# Altium schematic symbol library Horizontal Shielded Modular Jack.SchLib: 23 symbols
Pins are listed as number, name and electrical type; pins without a type are passive.

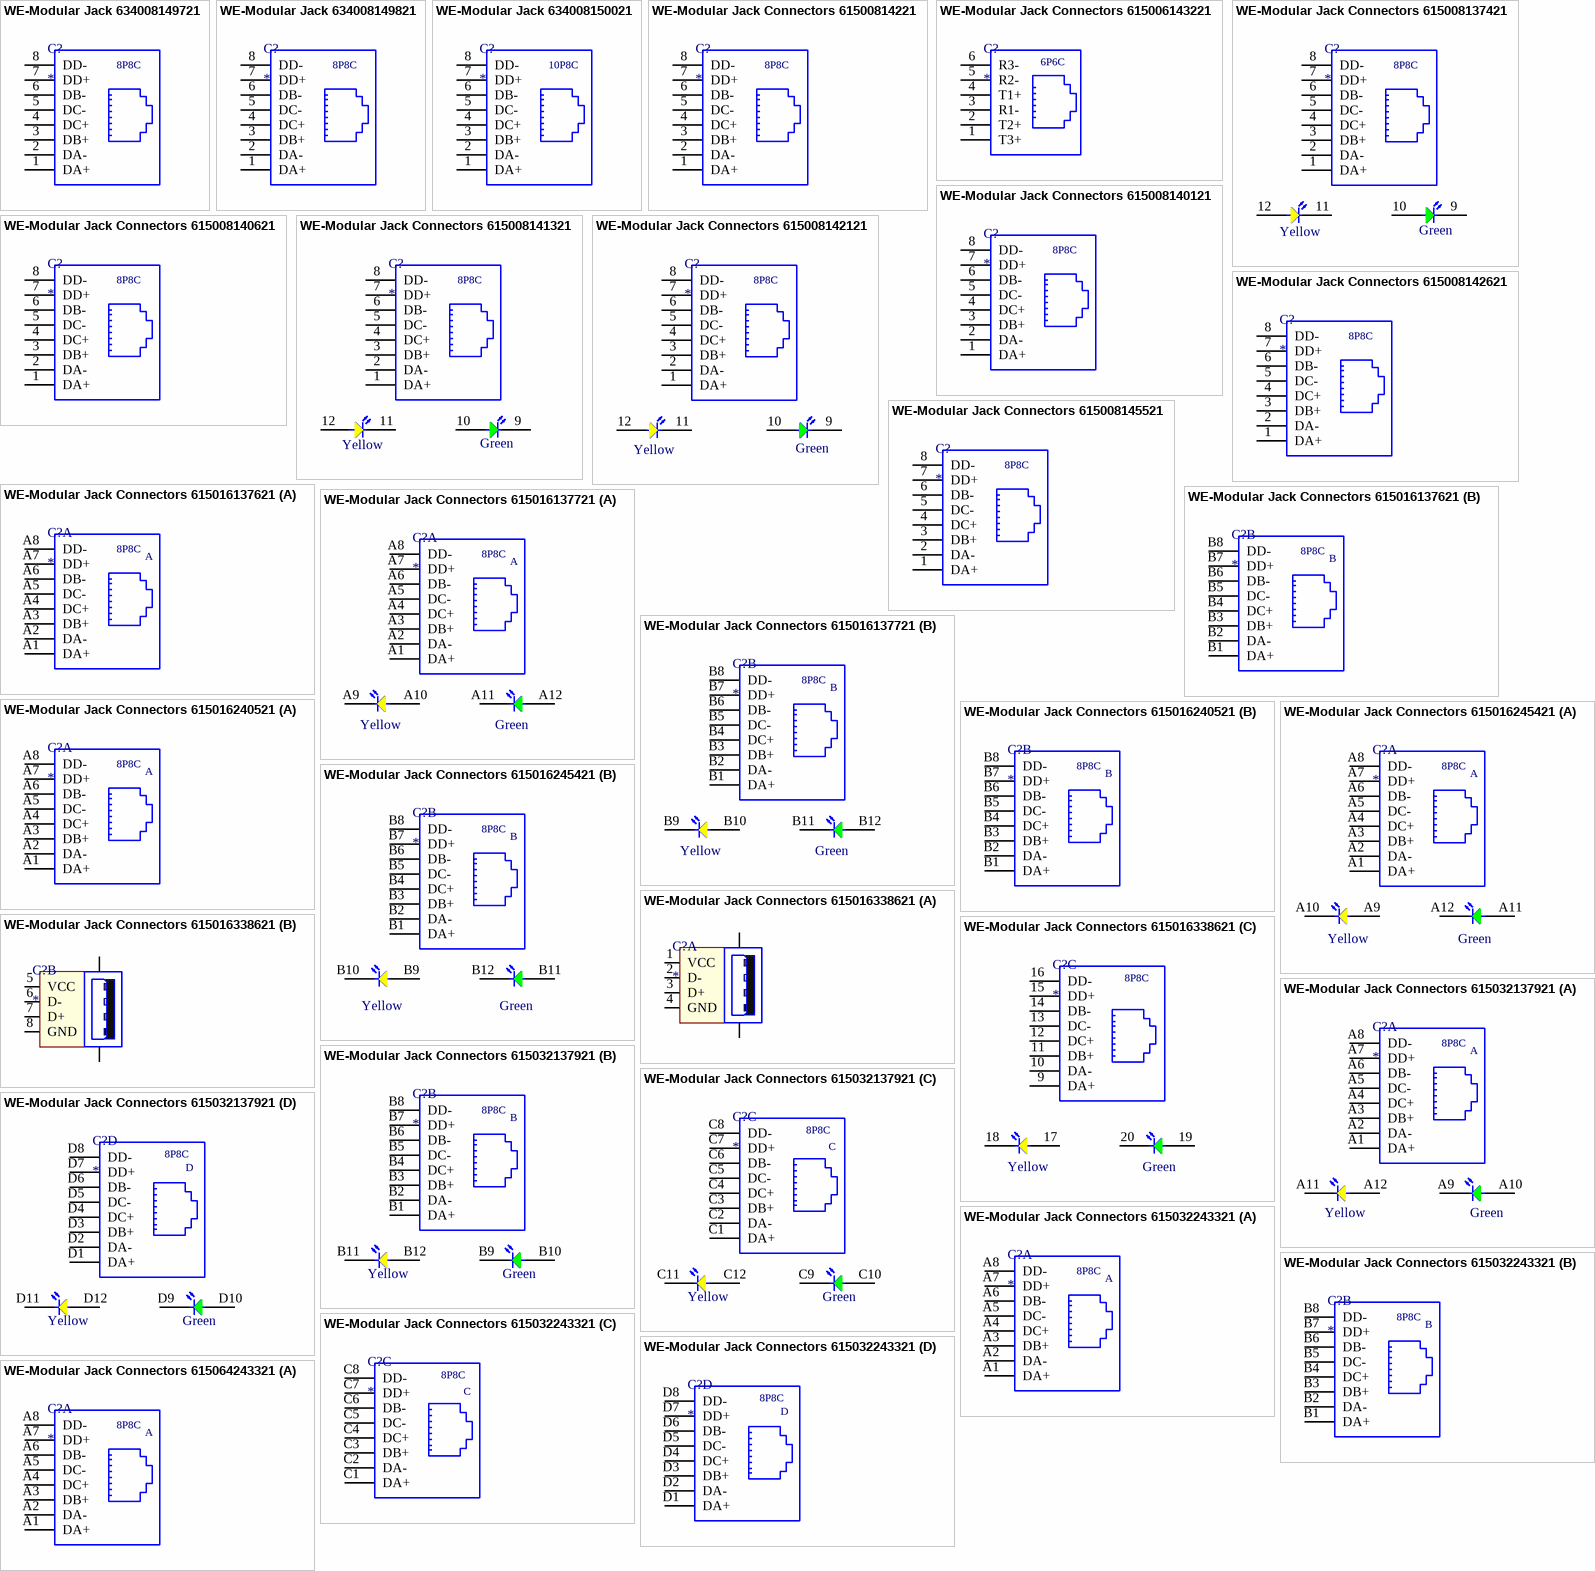
[diagram p0: symbols WE-Modular Jack 634008149721 to WE-Modular Jack Connectors 615064243321]

## WE-Modular Jack 634008149721
designator C?
WR-MJ_Modular Jack_Tab UP_8P8C; Manufacturer: Würth Elektronik eiSos GmbH; partNo: 634008149721; ComponentLink1 Description: Manufacturer; ComponentLink2 Description: Datasheet; NoPins: 8; ComponentLink1URL: http://www.we-online.de; ComponentLink2URL: http://katalog.we-online.de/em/datasheet/634008149721.pdf; Created by: Karrer Zheng; Created Date: 10/20/2014
footprint 634008149721
pins: 1 DA+, 2 DA-, 3 DB+, 4 DC+, 5 DC-, 6 DB-, 7 DD+, 8 DD-
text: 8P8C

## WE-Modular Jack 634008149821
designator C?
WR-MJ_Modular Jack_Tab UP_8P8C; Manufacturer: Würth Elektronik eiSos GmbH; partNo: 634008149821; ComponentLink1 Description: Manufacturer; ComponentLink2 Description: Datasheet; NoPins: 8; ComponentLink1URL: http://www.we-online.de; ComponentLink2URL: http://katalog.we-online.de/em/datasheet/634008149821.pdf; Created by: Karrer Zheng; Created Date: 10/20/2014
footprint 634008149821
pins: 1 DA+, 2 DA-, 3 DB+, 4 DC+, 5 DC-, 6 DB-, 7 DD+, 8 DD-
text: 8P8C

## WE-Modular Jack 634008150021
designator C?
WR-MJ_Modular Jack_Tab DOWN_10P8C; Manufacturer: Würth Elektronik eiSos GmbH; partNo: 634008150021; ComponentLink1 Description: Manufacturer; ComponentLink2 Description: Datasheet; NoPins: 8; ComponentLink1URL: http://www.we-online.de; ComponentLink2URL: http://katalog.we-online.de/em/datasheet/634008150021.pdf; Created by: Karrer Zheng; Created Date: 10/20/2014
footprint 634008150021
pins: 1 DA+, 2 DA-, 3 DB+, 4 DC+, 5 DC-, 6 DB-, 7 DD+, 8 DD-
text: 10P8C

## WE-Modular Jack Connectors 61500814221
designator C?
WR-COM Modular Jack RJ45 Horizontal  Shielded  Tab down; Manufacturer: Würth Elektronik eiSos GmbH; partNo: 61500814221; ComponentLink1 Description: Manufacturer; ComponentLink2 Description: Datasheet; NoPins: 8; ComponentLink1URL: http://www.we-online.de; ComponentLink2URL: http://katalog.we-online.de/em/datasheet/61500814221.pdf; Created by: Karrer Zheng; Created Date: 10/22/2014
footprint 61500814221
pins: 1 DA+, 2 DA-, 3 DB+, 4 DC+, 5 DC-, 6 DB-, 7 DD+, 8 DD-
text: 8P8C

## WE-Modular Jack Connectors 615006143221
designator C?
WR-COM Modular Jack Horizontal Shielded 1x1 TH    6P6C Tab Up; Manufacturer: Würth Elektronik eiSos GmbH; partNo: 615006143221; ComponentLink1 Description: Manufacturer; ComponentLink2 Description: Datasheet; NoPins: 6; ComponentLink1URL: http://www.we-online.de; ComponentLink2URL: http://katalog.we-online.de/em/datasheet/615006143221.pdf; Created by: Karrer Zheng; Created Date: 10/22/2014
footprint 615006143221
pins: 1 T3+, 2 T2+, 3 R1-, 4 T1+, 5 R2-, 6 R3-
text: 6P6C

## WE-Modular Jack Connectors 615008137421
designator C?
WR-COM Modular Jack RJ45 Horizontal  Shielded  With LED With EMI panel ground Tab up - Left yellow - Right green; Manufacturer: Würth Elektronik eiSos GmbH; partNo: 615008137421; ComponentLink1 Description: Manufacturer; ComponentLink2 Description: Datasheet; NoPins: 12; ComponentLink1URL: http://www.we-online.de; ComponentLink2URL: http://katalog.we-online.de/em/datasheet/615008137421.pdf; Created by: Karrer Zheng; Created Date: 10/22/2014
footprint 615008137421
pins: 1 DA+, 2 DA-, 3 DB+, 4 DC+, 5 DC-, 6 DB-, 7 DD+, 8 DD-, 9, 10, 11, 12
text: 8P8C; Yellow; Green

## WE-Modular Jack Connectors 615008140121
designator C?
WR-COM Modular Jack Horizontal Shielded 1x1 TH   3,05mm 8P8C Tab Down; Manufacturer: Würth Elektronik eiSos GmbH; partNo: 615008140121; ComponentLink1 Description: Manufacturer; ComponentLink2 Description: Datasheet; NoPins: 8; ComponentLink1URL: http://www.we-online.de; ComponentLink2URL: http://katalog.we-online.de/em/datasheet/615008140121.pdf; Created by: Karrer Zheng; Created Date: 10/22/2014
footprint 615008140121
pins: 1 DA+, 2 DA-, 3 DB+, 4 DC+, 5 DC-, 6 DB-, 7 DD+, 8 DD-
text: 8P8C

## WE-Modular Jack Connectors 615008140621
designator C?
WR-COM Modular Jack Horizontal Shielded 1x1 TH  EMI  fingers  8P8C Tab Up; Manufacturer: Würth Elektronik eiSos GmbH; partNo: 615008140621; ComponentLink1 Description: Manufacturer; ComponentLink2 Description: Datasheet; NoPins: 8; ComponentLink1URL: http://www.we-online.de; ComponentLink2URL: http://katalog.we-online.de/em/datasheet/615008140621.pdf; Created by: Karrer Zheng; Created Date: 10/22/2014
footprint 615008140621
pins: 1 DA+, 2 DA-, 3 DB+, 4 DC+, 5 DC-, 6 DB-, 7 DD+, 8 DD-
text: 8P8C

## WE-Modular Jack Connectors 615008141321
designator C?
WR-COM Modular Jack Horizontal Shielded 1x1 TH LED 2x Bipolar Green/Yellow Green=Fw EMI  fingers  8P8C Tab Up; Manufacturer: Würth Elektronik eiSos GmbH; partNo: 615008141321; ComponentLink1 Description: Manufacturer; ComponentLink2 Description: Datasheet; NoPins: 12; ComponentLink1URL: http://www.we-online.de; ComponentLink2URL: http://katalog.we-online.de/em/datasheet/615008141321.pdf; Created by: Karrer Zheng; Created Date: 10/22/2014
footprint 615008141321
pins: 1 DA+, 2 DA-, 3 DB+, 4 DC+, 5 DC-, 6 DB-, 7 DD+, 8 DD-, 9, 10, 11, 12
text: 8P8C; Yellow; Green

## WE-Modular Jack Connectors 615008142121
designator C?
WR-COM Modular Jack Horizontal Shielded 1x1 TH LED 2x Bipolar Yellow/Green Yellow=Fw EMI  fingers  8P8C Tab Up; Manufacturer: Würth Elektronik eiSos GmbH; partNo: 615008142121; ComponentLink1 Description: Manufacturer; ComponentLink2 Description: Datasheet; NoPins: 12; ComponentLink1URL: http://www.we-online.de; ComponentLink2URL: http://katalog.we-online.de/em/datasheet/615008142121.pdf; Created by: Karrer Zheng; Created Date: 10/22/2014
footprint 615008142121
pins: 1 DA+, 2 DA-, 3 DB+, 4 DC+, 5 DC-, 6 DB-, 7 DD+, 8 DD-, 9, 10, 11, 12
text: 8P8C; Yellow; Green

## WE-Modular Jack Connectors 615008142621
designator C?
WR-COM Modular Jack Horizontal Shielded 1x1 TH   rear EMI PCB post 8P8C Tab Down; Manufacturer: Würth Elektronik eiSos GmbH; partNo: 615008142621; ComponentLink1 Description: Manufacturer; ComponentLink2 Description: Datasheet; NoPins: 8; ComponentLink1URL: http://www.we-online.de; ComponentLink2URL: http://katalog.we-online.de/em/datasheet/615008142621.pdf; Created by: Karrer Zheng; Created Date: 10/22/2014
footprint 615008142621
pins: 1 DA+, 2 DA-, 3 DB+, 4 DC+, 5 DC-, 6 DB-, 7 DD+, 8 DD-
text: 8P8C

## WE-Modular Jack Connectors 615008145521
designator C?
WR-COM Modular Jack Cat 5e - Horizontal Shielded - 1x1 - TH -  EMI  fingers  - 8P8C - Tab Down; Manufacturer: Würth Elektronik eiSos GmbH; partNo: 615008145521; ComponentLink1 Description: Manufacturer; ComponentLink2 Description: Datasheet; NoPins: 8; ComponentLink1URL: http://www.we-online.de; ComponentLink2URL: http://katalog.we-online.de/em/datasheet/615008145521.pdf; Created by: Karrer Zheng; Created Date: 10/22/2014
footprint 615008145521
pins: 1 DA+, 2 DA-, 3 DB+, 4 DC+, 5 DC-, 6 DB-, 7 DD+, 8 DD-
text: 8P8C

## WE-Modular Jack Connectors 615016137621
designator C?
WR-COM Modular Jack RJ45 Horizontal Dual port Shielded Tab down; Manufacturer: Würth Elektronik eiSos GmbH; partNo: 615016137621; ComponentLink1 Description: Manufacturer; ComponentLink2 Description: Datasheet; NoPins: 16; ComponentLink1URL: http://www.we-online.de; ComponentLink2URL: http://katalog.we-online.de/em/datasheet/615016137621.pdf; Created by: Karrer Zheng; Created Date: 10/22/2014
footprint 615016137621
part A pins: A1 DA+, A2 DA-, A3 DB+, A4 DC+, A5 DC-, A6 DB-, A7 DD+, A8 DD-
part B pins: B1 DA+, B2 DA-, B3 DB+, B4 DC+, B5 DC-, B6 DB-, B7 DD+, B8 DD-
part A text: 8P8C; A
part B text: 8P8C; B

## WE-Modular Jack Connectors 615016137721
designator C?
WR-COM Modular Jack RJ45 Horizontal Dual port Shielded  With LED With EMI panel ground Tab up - left yellow - right green; Manufacturer: Würth Elektronik eiSos GmbH; partNo: 615016137721; ComponentLink1 Description: Manufacturer; ComponentLink2 Description: Datasheet; NoPins: 24; ComponentLink1URL: http://www.we-online.de; ComponentLink2URL: http://katalog.we-online.de/em/datasheet/615016137721.pdf; Created by: Karrer Zheng; Created Date: 10/22/2014
footprint 615016137721
part A pins: A1 DA+, A2 DA-, A3 DB+, A4 DC+, A5 DC-, A6 DB-, A7 DD+, A8 DD-, A9, A10, A11, A12
part B pins: B1 DA+, B2 DA-, B3 DB+, B4 DC+, B5 DC-, B6 DB-, B7 DD+, B8 DD-, B9, B10, B11, B12
part A text: 8P8C; A; Yellow; Green
part B text: 8P8C; B; Yellow; Green

## WE-Modular Jack Connectors 615016240521
designator C?
WR-COM Modular Jack Horizontal Shielded 2x1 TH  EMI  fingers  8P8C Tab Down & Up; Manufacturer: Würth Elektronik eiSos GmbH; partNo: 615016240521; ComponentLink1 Description: Manufacturer; ComponentLink2 Description: Datasheet; NoPins: 16; ComponentLink1URL: http://www.we-online.de; ComponentLink2URL: http://katalog.we-online.de/em/datasheet/615016240521.pdf; Created by: Karrer Zheng; Created Date: 10/22/2014
footprint 615016240521
part A pins: A1 DA+, A2 DA-, A3 DB+, A4 DC+, A5 DC-, A6 DB-, A7 DD+, A8 DD-
part B pins: B1 DA+, B2 DA-, B3 DB+, B4 DC+, B5 DC-, B6 DB-, B7 DD+, B8 DD-
part A text: 8P8C; A
part B text: 8P8C; B

## WE-Modular Jack Connectors 615016245421
designator C?
WR-COM Modular Jack Horizontal Shielded 2x1 TH  EMI  fingers with LED (Yellow=left / Green=right) 8P8C Tab Down & Up; Manufacturer: Würth Elektronik eiSos GmbH; partNo: 615016245421; ComponentLink1 Description: Manufacturer; ComponentLink2 Description: Datasheet; NoPins: 24; ComponentLink1URL: http://www.we-online.de; ComponentLink2URL: http://katalog.we-online.de/em/datasheet/615016245421.pdf; Created by: Karrer Zheng; Created Date: 10/22/2014
footprint 615016245421
part A pins: A1 DA+, A2 DA-, A3 DB+, A4 DC+, A5 DC-, A6 DB-, A7 DD+, A8 DD-, A9, A10, A11, A12
part B pins: B1 DA+, B2 DA-, B3 DB+, B4 DC+, B5 DC-, B6 DB-, B7 DD+, B8 DD-, B9, B10, B11, B12
part A text: 8P8C; A; Yellow; Green
part B text: 8P8C; B; Yellow; Green

## WE-Modular Jack Connectors 615016338621
designator C?
WR-COM Modular Jack RJ45 + dual USB stacked Horizontal Tab up; Manufacturer: Würth Elektronik eiSos GmbH; partNo: 615016338621; ComponentLink1 Description: Manufacturer; ComponentLink2 Description: Datasheet; NoPins: 20; ComponentLink1URL: http://www.we-online.de; ComponentLink2URL: http://katalog.we-online.de/em/datasheet/615016338621.pdf; Created by: Karrer Zheng; Created Date: 10/22/2014
footprint 615016338621
part A pins: 1 VCC, 2 D-, 3 D+, 4 GND, Z1 Shield, Z2 Shield
part B pins: 5 VCC, 6 D-, 7 D+, 8 GND, Z1 Shield, Z2 Shield
part C pins: 9 DA+, 10 DA-, 11 DB+, 12 DC+, 13 DC-, 14 DB-, 15 DD+, 16 DD-, 17, 18, 19, 20
part C text: 8P8C; Yellow; Green

## WE-Modular Jack Connectors 615032137921
designator C?
WR-COM Modular Jack RJ45 Horizontal Ganged 4 ports Shielded  With LED With EMI panel ground Tab up - left yellow - right green; Manufacturer: Würth Elektronik eiSos GmbH; partNo: 615032137921; ComponentLink1 Description: Manufacturer; ComponentLink2 Description: Datasheet; NoPins: 48; ComponentLink1URL: http://www.we-online.de; ComponentLink2URL: http://katalog.we-online.de/em/datasheet/615032137921.pdf; Created by: Karrer Zheng; Created Date: 10/22/2014
footprint 615032137921
part A pins: A1 DA+, A2 DA-, A3 DB+, A4 DC+, A5 DC-, A6 DB-, A7 DD+, A8 DD-, A9, A10, A11, A12
part B pins: B1 DA+, B2 DA-, B3 DB+, B4 DC+, B5 DC-, B6 DB-, B7 DD+, B8 DD-, B9, B10, B11, B12
part C pins: C1 DA+, C2 DA-, C3 DB+, C4 DC+, C5 DC-, C6 DB-, C7 DD+, C8 DD-, C9, C10, C11, C12
part D pins: D1 DA+, D2 DA-, D3 DB+, D4 DC+, D5 DC-, D6 DB-, D7 DD+, D8 DD-, D9, D10, D11, D12
part A text: 8P8C; A; Yellow; Green
part B text: 8P8C; B; Yellow; Green
part C text: 8P8C; C; Yellow; Green
part D text: 8P8C; D; Yellow; Green

## WE-Modular Jack Connectors 615032243321
designator C?
WR-COM Modular Jack Horizontal Shielded 2x2 TH  EMI  fingers  8P8C Tab Down & Up; Manufacturer: Würth Elektronik eiSos GmbH; partNo: 615032243321; ComponentLink1 Description: Manufacturer; ComponentLink2 Description: Datasheet; NoPins: 32; ComponentLink1URL: http://www.we-online.de; ComponentLink2URL: http://katalog.we-online.de/em/datasheet/615032243321.pdf; Created by: Karrer Zheng; Created Date: 10/22/2014
footprint 615032243321
part A pins: A1 DA+, A2 DA-, A3 DB+, A4 DC+, A5 DC-, A6 DB-, A7 DD+, A8 DD-
part B pins: B1 DA+, B2 DA-, B3 DB+, B4 DC+, B5 DC-, B6 DB-, B7 DD+, B8 DD-
part C pins: C1 DA+, C2 DA-, C3 DB+, C4 DC+, C5 DC-, C6 DB-, C7 DD+, C8 DD-
part D pins: D1 DA+, D2 DA-, D3 DB+, D4 DC+, D5 DC-, D6 DB-, D7 DD+, D8 DD-
part A text: 8P8C; A
part B text: 8P8C; B
part C text: 8P8C; C
part D text: 8P8C; D

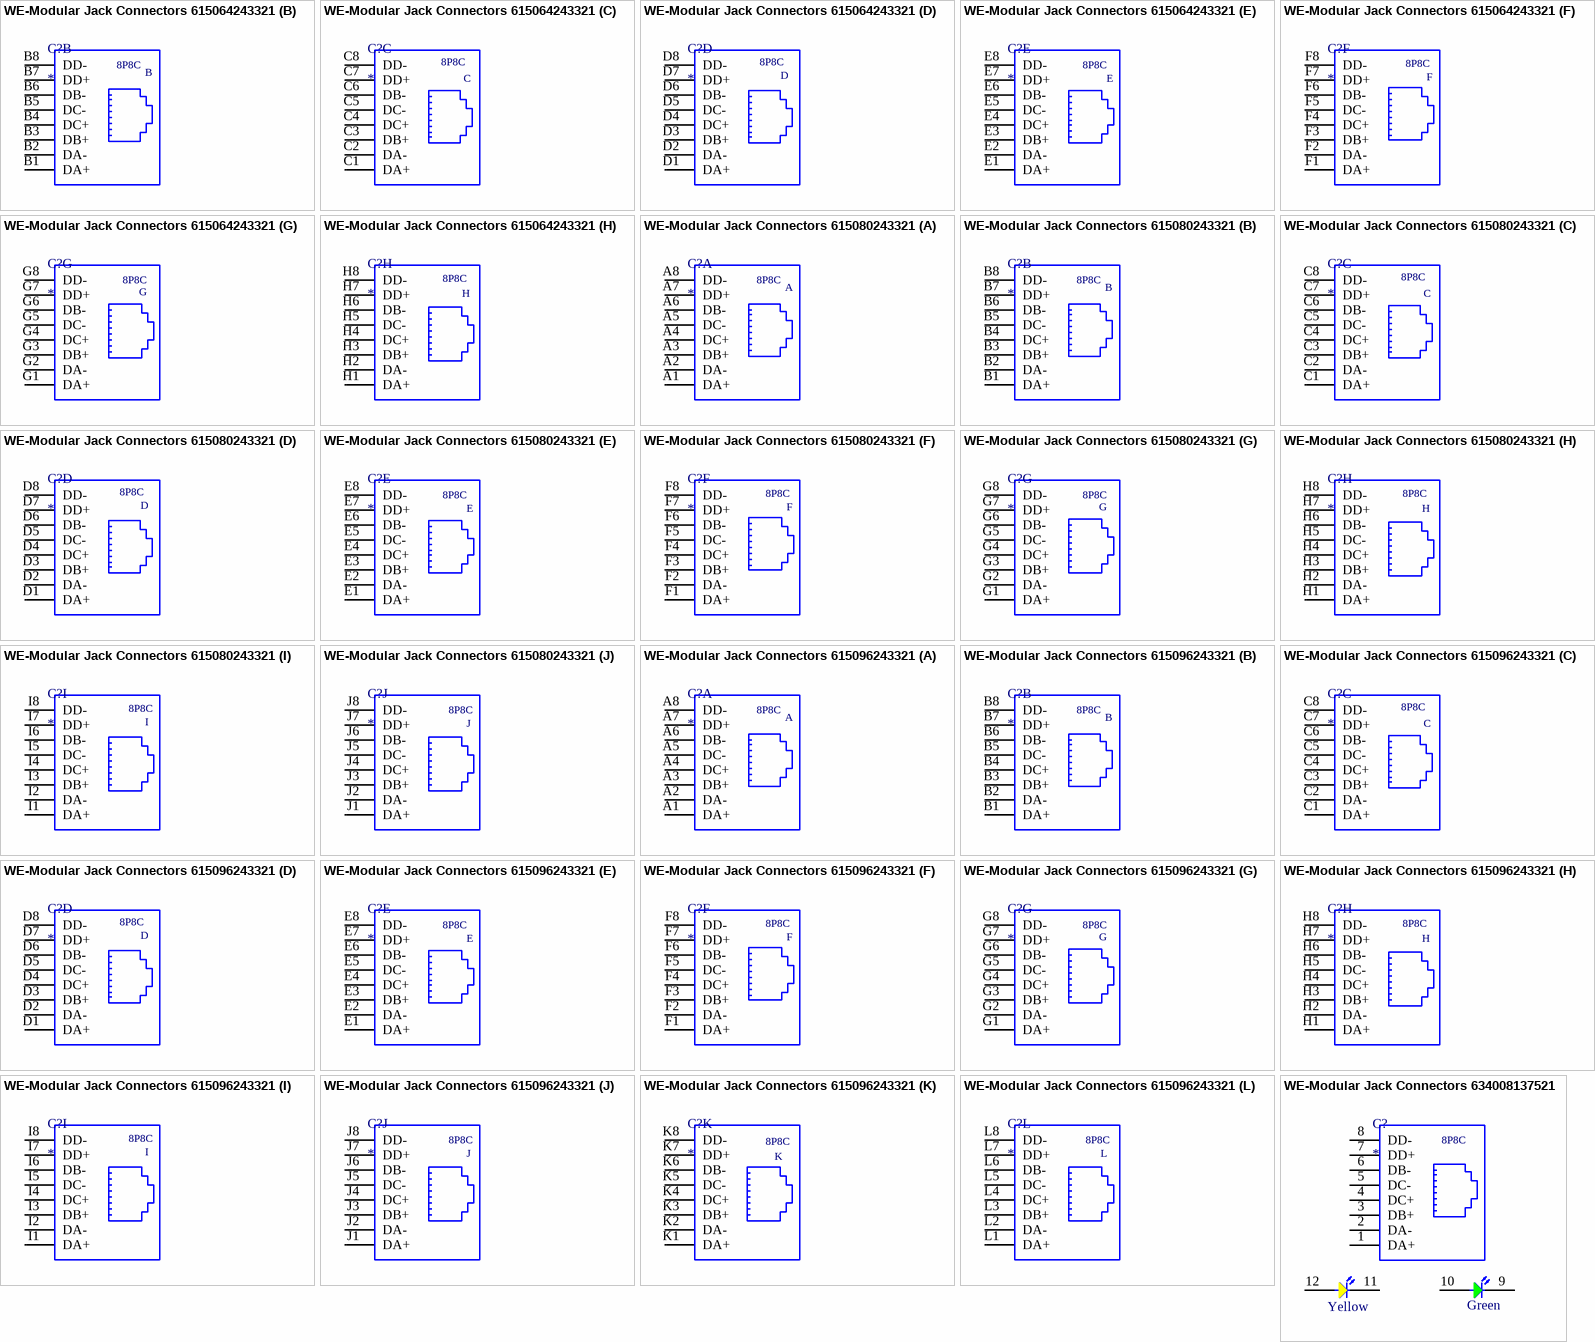
[diagram p1: symbols WE-Modular Jack Connectors 615064243321 to WE-Modular Jack Connectors 634008137521]

## WE-Modular Jack Connectors 615064243321
designator C?
WR-COM Modular Jack Horizontal Shielded 2x4 TH  EMI  fingers  8P8C Tab Down & Up; Manufacturer: Würth Elektronik eiSos GmbH; partNo: 615064243321; ComponentLink1 Description: Manufacturer; ComponentLink2 Description: Datasheet; NoPins: 64; ComponentLink1URL: http://www.we-online.de; ComponentLink2URL: http://katalog.we-online.de/em/datasheet/615064243321.pdf; Created by: Karrer Zheng; Created Date: 10/22/2014
footprint 615064243321
part A pins: A1 DA+, A2 DA-, A3 DB+, A4 DC+, A5 DC-, A6 DB-, A7 DD+, A8 DD-
part B pins: B1 DA+, B2 DA-, B3 DB+, B4 DC+, B5 DC-, B6 DB-, B7 DD+, B8 DD-
part C pins: C1 DA+, C2 DA-, C3 DB+, C4 DC+, C5 DC-, C6 DB-, C7 DD+, C8 DD-
part D pins: D1 DA+, D2 DA-, D3 DB+, D4 DC+, D5 DC-, D6 DB-, D7 DD+, D8 DD-
part E pins: E1 DA+, E2 DA-, E3 DB+, E4 DC+, E5 DC-, E6 DB-, E7 DD+, E8 DD-
part F pins: F1 DA+, F2 DA-, F3 DB+, F4 DC+, F5 DC-, F6 DB-, F7 DD+, F8 DD-
part G pins: G1 DA+, G2 DA-, G3 DB+, G4 DC+, G5 DC-, G6 DB-, G7 DD+, G8 DD-
part H pins: H1 DA+, H2 DA-, H3 DB+, H4 DC+, H5 DC-, H6 DB-, H7 DD+, H8 DD-
part A text: 8P8C; A
part B text: 8P8C; B
part C text: 8P8C; C
part D text: 8P8C; D
part E text: 8P8C; E
part F text: 8P8C; F
part G text: 8P8C; G
part H text: 8P8C; H

## WE-Modular Jack Connectors 615080243321
designator C?
WR-COM Modular Jack Horizontal Shielded 2x5 TH  EMI  fingers  8P8C Tab Down & Up; Manufacturer: Würth Elektronik eiSos GmbH; partNo: 615080243321; ComponentLink1 Description: Manufacturer; ComponentLink2 Description: Datasheet; NoPins: 80; ComponentLink1URL: http://www.we-online.de; ComponentLink2URL: http://katalog.we-online.de/em/datasheet/615080243321.pdf; Created by: Karrer Zheng; Created Date: 10/22/2014
footprint 615080243321
part A pins: A1 DA+, A2 DA-, A3 DB+, A4 DC+, A5 DC-, A6 DB-, A7 DD+, A8 DD-
part B pins: B1 DA+, B2 DA-, B3 DB+, B4 DC+, B5 DC-, B6 DB-, B7 DD+, B8 DD-
part C pins: C1 DA+, C2 DA-, C3 DB+, C4 DC+, C5 DC-, C6 DB-, C7 DD+, C8 DD-
part D pins: D1 DA+, D2 DA-, D3 DB+, D4 DC+, D5 DC-, D6 DB-, D7 DD+, D8 DD-
part E pins: E1 DA+, E2 DA-, E3 DB+, E4 DC+, E5 DC-, E6 DB-, E7 DD+, E8 DD-
part F pins: F1 DA+, F2 DA-, F3 DB+, F4 DC+, F5 DC-, F6 DB-, F7 DD+, F8 DD-
part G pins: G1 DA+, G2 DA-, G3 DB+, G4 DC+, G5 DC-, G6 DB-, G7 DD+, G8 DD-
part H pins: H1 DA+, H2 DA-, H3 DB+, H4 DC+, H5 DC-, H6 DB-, H7 DD+, H8 DD-
part I pins: I1 DA+, I2 DA-, I3 DB+, I4 DC+, I5 DC-, I6 DB-, I7 DD+, I8 DD-
part J pins: J1 DA+, J2 DA-, J3 DB+, J4 DC+, J5 DC-, J6 DB-, J7 DD+, J8 DD-
part A text: 8P8C; A
part B text: 8P8C; B
part C text: 8P8C; C
part D text: 8P8C; D
part E text: 8P8C; E
part F text: 8P8C; F
part G text: 8P8C; G
part H text: 8P8C; H
part I text: 8P8C; I
part J text: 8P8C; J

## WE-Modular Jack Connectors 615096243321
designator C?
WR-COM Modular Jack Horizontal Shielded 2x6 TH  EMI  fingers  8P8C Tab Down & Up; Manufacturer: Würth Elektronik eiSos GmbH; partNo: 615096243321; ComponentLink1 Description: Manufacturer; ComponentLink2 Description: Datasheet; NoPins: 96; ComponentLink1URL: http://www.we-online.de; ComponentLink2URL: http://katalog.we-online.de/em/datasheet/615096243321.pdf; Created by: Karrer Zheng; Created Date: 10/22/2014
footprint 615096243321
part A pins: A1 DA+, A2 DA-, A3 DB+, A4 DC+, A5 DC-, A6 DB-, A7 DD+, A8 DD-
part B pins: B1 DA+, B2 DA-, B3 DB+, B4 DC+, B5 DC-, B6 DB-, B7 DD+, B8 DD-
part C pins: C1 DA+, C2 DA-, C3 DB+, C4 DC+, C5 DC-, C6 DB-, C7 DD+, C8 DD-
part D pins: D1 DA+, D2 DA-, D3 DB+, D4 DC+, D5 DC-, D6 DB-, D7 DD+, D8 DD-
part E pins: E1 DA+, E2 DA-, E3 DB+, E4 DC+, E5 DC-, E6 DB-, E7 DD+, E8 DD-
part F pins: F1 DA+, F2 DA-, F3 DB+, F4 DC+, F5 DC-, F6 DB-, F7 DD+, F8 DD-
part G pins: G1 DA+, G2 DA-, G3 DB+, G4 DC+, G5 DC-, G6 DB-, G7 DD+, G8 DD-
part H pins: H1 DA+, H2 DA-, H3 DB+, H4 DC+, H5 DC-, H6 DB-, H7 DD+, H8 DD-
part I pins: I1 DA+, I2 DA-, I3 DB+, I4 DC+, I5 DC-, I6 DB-, I7 DD+, I8 DD-
part J pins: J1 DA+, J2 DA-, J3 DB+, J4 DC+, J5 DC-, J6 DB-, J7 DD+, J8 DD-
part K pins: K1 DA+, K2 DA-, K3 DB+, K4 DC+, K5 DC-, K6 DB-, K7 DD+, K8 DD-
part L pins: L1 DA+, L2 DA-, L3 DB+, L4 DC+, L5 DC-, L6 DB-, L7 DD+, L8 DD-
part A text: 8P8C; A
part B text: 8P8C; B
part C text: 8P8C; C
part D text: 8P8C; D
part E text: 8P8C; E
part F text: 8P8C; F
part G text: 8P8C; G
part H text: 8P8C; H
part I text: 8P8C; I
part J text: 8P8C; J
part K text: 8P8C; K
part L text: 8P8C; L

## WE-Modular Jack Connectors 634008137521
designator C?
WR-COM Modular Jack RJ45 Horizontal  Shielded SMT With LED With EMI panel ground Tab up - Tray packaging; Manufacturer: Würth Elektronik eiSos GmbH; partNo: 634008137521; ComponentLink1 Description: Manufacturer; ComponentLink2 Description: Datasheet; NoPins: 12; ComponentLink1URL: http://www.we-online.de; ComponentLink2URL: http://katalog.we-online.de/em/datasheet/634008137521.pdf; Created by: Karrer Zheng; Created Date: 10/22/2014
footprint 634008137521
pins: 1 DA+, 2 DA-, 3 DB+, 4 DC+, 5 DC-, 6 DB-, 7 DD+, 8 DD-, 9, 10, 11, 12
text: 8P8C; Yellow; Green